# Altium footprint library crystal.PCBLIB: 66 footprints (part 1 of 5)
Each footprint in its own frame and in the unit in brackets; x right, y up, seen from the top. Pads: shape width x height; smd on the part's side, far side on the other; paste and mask are expansions set on the pad; w line width, h text height; cw(c..) or ccw(c..) is an arc to the next point about the centre after c.
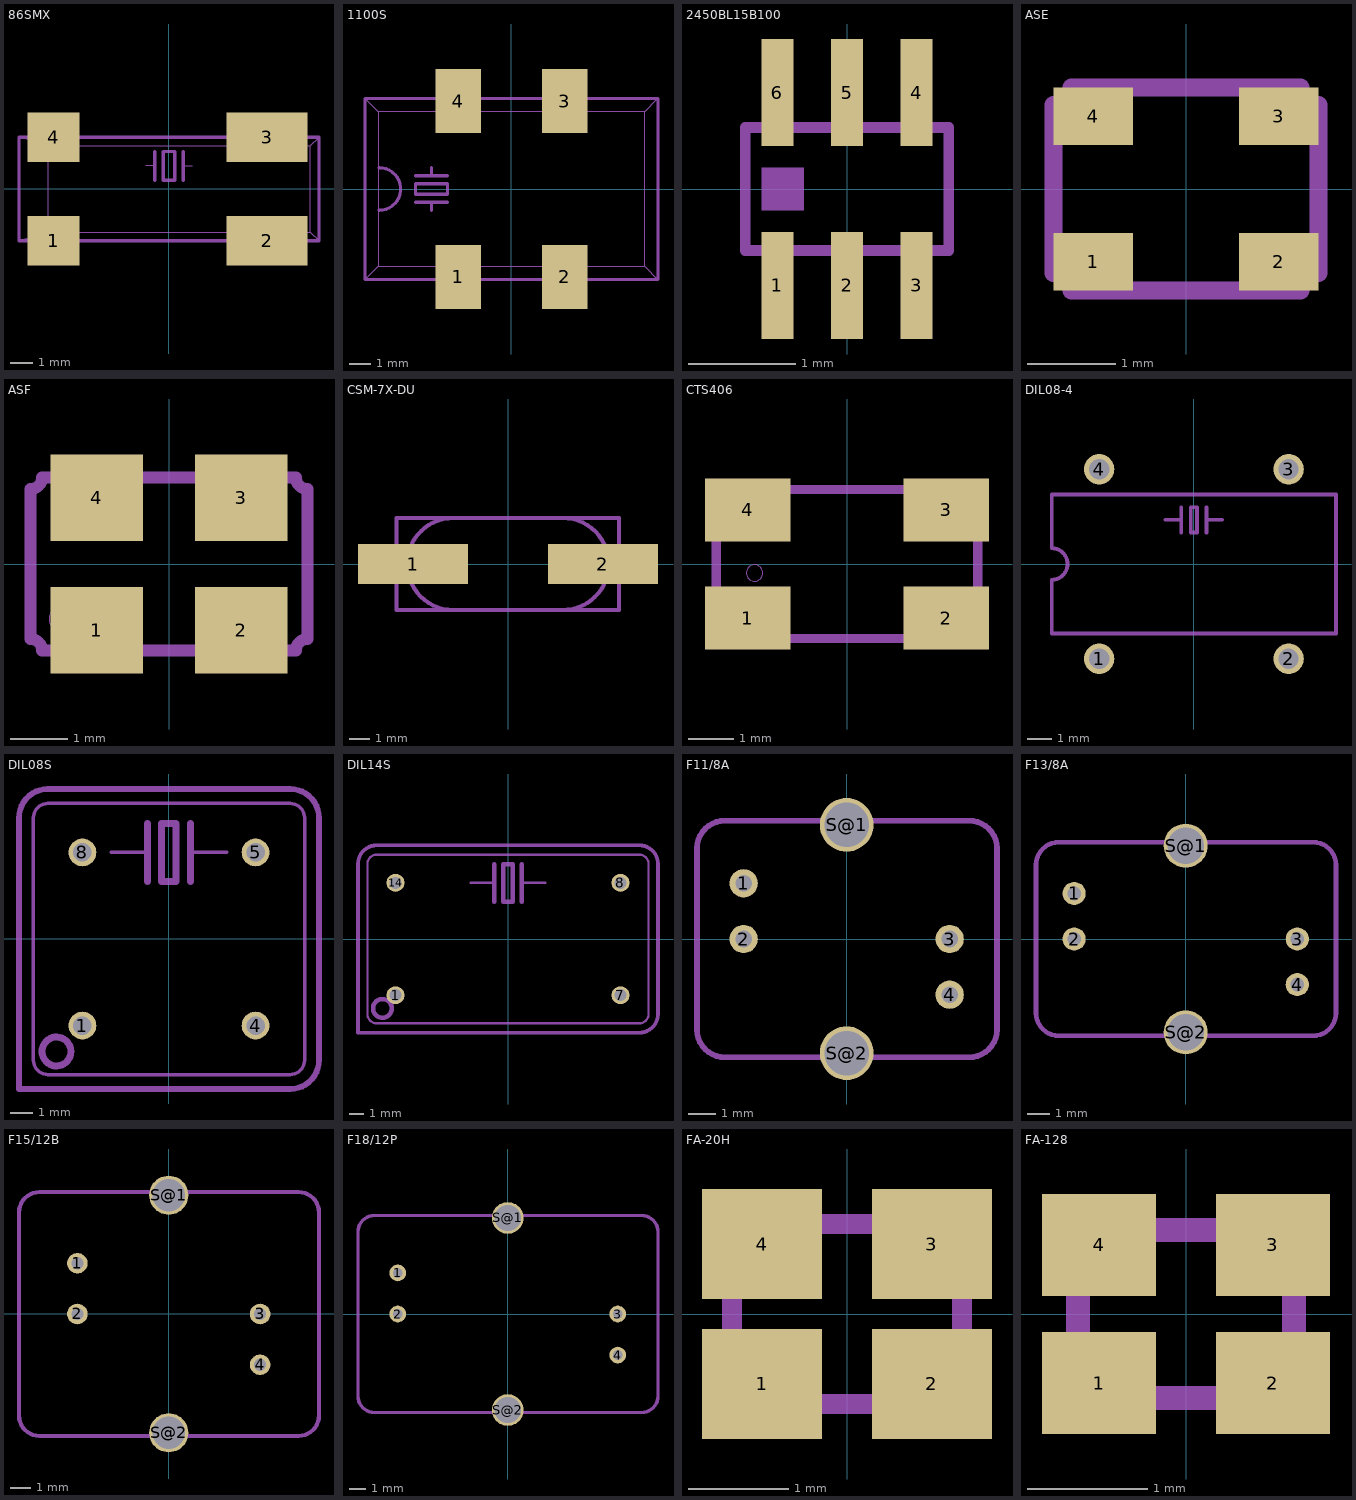
[diagram p0: the footprints below, top view; thin cyan lines are the x and y axes]

## 86SMX [mil]
pads (4):
  rect 90x86 smd: 1(-200,-90) 4(-200,90)
  rect 140x86 smd: 2(170,-90) 3(170,90)
Mechanical 2:
  lines w2: -260,-90 -250,-87 ; -260,90 -250,87 ; -210,-40 -210,40 ; -150,-75 95,-75 ; -150,75 95,75 ; -40,40 -25,40 ; 25,40 40,40 ; 260,-90 245,-75 245,75 260,90
  lines w6: -250,-90 -260,-90 -260,90 -250,90 ; -150,-90 95,-90 ; -150,90 95,90 ; -25,15 -25,40 -25,65 ; 25,15 25,40 25,65 ; 245,-90 260,-90 260,90 245,90 ; -10,15 -10,65 10,65 10,15 -10,15
Mechanical 18:
  lines w2: -250,-87 -210,-75 ; -250,87 -210,75 ; -210,-40 -210,-75 ; -210,40 -210,75 ; -150,-75 -210,-75 ; -150,75 -210,75 ; 95,-75 245,-75 ; 95,75 245,75
  lines w6: -250,-90 -235,-90 ; -250,90 -235,90 ; -150,-90 -165,-90 ; -150,90 -165,90 ; 95,-90 245,-90 ; 95,90 245,90 ; 110,-90 110,-100 230,-100 230,-90 ; 110,90 110,100 230,100 230,90 ; -235,-90 -165,-90 ; -235,-90 -235,-100 -165,-100 -165,-90 ; -235,90 -165,90 ; -235,90 -235,100 -165,100 -165,90

## 1100S [mil]
pads (4):
  rect 86x120 smd: 1(-100,-165) 2(100,-165) 3(100,165) 4(-100,165)
Mechanical 2:
  lines w2: -275,-170 -250,-145 ; -275,170 -250,145 ; -155,-145 -250,-145 ; -155,145 -250,145 ; -45,-145 45,-145 ; -45,145 45,145 ; 155,-145 250,-145 ; 155,145 250,145 ; 275,-170 250,-145 ; 275,170 250,145 ; -250,-145 -250,145 ; 250,-145 250,145
  lines w6: -248.03,-40 ccw(c-248.03,0) -248.03,40 ; -180,-25 -150,-25 ; -180,25 -150,25 ; -155,-170 -275,-170 -275,170 -155,170 ; -150,-40 -150,-25 ; -150,40 -150,25 ; -120,-25 -150,-25 ; -120,25 -150,25 ; -45,-170 45,-170 ; -45,170 45,170 ; 155,-170 275,-170 275,170 155,170 ; -180,-10 -120,-10 -120,10 -180,10 -180,-10
Mechanical 18:
  lines w2: -155,-145 -45,-145 ; -155,145 -45,145 ; 45,-145 155,-145 ; 45,145 155,145
  lines w6: -155,-170 -45,-170 ; -155,170 -45,170 ; -130,-170 -130,-195 -70,-195 -70,-170 ; -130,170 -130,195 -70,195 -70,170 ; 45,-170 70,-170 ; 45,170 70,170 ; 155,-170 130,-170 ; 155,170 130,170 ; 70,-170 130,-170 ; 70,-170 70,-195 130,-195 130,-170 ; 70,170 130,170 ; 70,170 70,195 130,195 130,170

## 2450BL15B100 [mm]
pads (6):
  rect 0.3x1 smd: 1(-0.65,-0.9) 2(0,-0.9) 3(0.65,-0.9) 4(0.65,0.9) 5(0,0.9) 6(-0.65,0.9)
Mechanical 2:
  rectangle: -0.8,-0.2 -0.4,0.2
Mechanical 18:
  lines w0.102: -0.95,-0.575 0.95,-0.575 0.95,0.575 -0.95,0.575 -0.95,-0.575

## ASE [mm]
pads (4):
  rect 0.9x0.65 smd: 1(-1.05,-0.825) 2(1.05,-0.825) 3(1.05,0.825) 4(-1.05,0.825)
Mechanical 18:
  circle w0: c-1,-0.7 r0.18
  lines w0.203: -1.5,-0.95 -1.5,0.95 ccw(c-1.5,1.15) -1.3,1.15 1.3,1.15 ccw(c1.5,1.15) 1.5,0.95 1.5,-0.95 ccw(c1.5,-1.15) 1.3,-1.15 -1.3,-1.15 ccw(c-1.5,-1.15) -1.5,-0.95

## ASF [mil]
pads (4):
  rect 62.99x59.06 smd: 1(-49.21,-45.28) 2(49.21,-45.28) 3(49.21,45.28) 4(-49.21,45.28)
Mechanical 2:
  lines w8: -86.61,-59.06 ccw(c-94.49,-59.06) -94.49,-51.18 -94.49,51.18 ccw(c-94.49,59.06) -86.61,59.06 ; 86.61,-59.06 cw(c94.49,-59.06) 94.49,-51.18 94.49,51.18 cw(c94.49,59.06) 86.61,59.06
Mechanical 18:
  circle w0: c-74.8,-37.4 r7.09
  lines w8: -86.61,-59.06 86.61,-59.06 ; -86.61,59.06 86.61,59.06

## CSM-7X-DU [mm]
pads (2):
  rect 5.5x2 smd: 1(-4.75,0) 2(4.75,0)
Mechanical 18:
  lines w0.203: 2.725,-2.3 ccw(c2.737,0) 2.75,2.3 ; -2.75,-2.3 5.55,-2.3 5.55,2.3 2.75,2.3 ; -2.75,-2.3 -5.575,-2.3 -5.575,2.3 -2.725,2.3 ; -2.75,-2.3 cw(c-2.737,0) -2.725,2.3 ; -2.725,2.3 2.75,2.3

## CTS406 [mil]
pads (4):
  rect 74.8x55.12 smd: 1(-86.61,-47.24) 2(86.61,-47.24) 3(86.61,47.24) 4(-86.61,47.24)
Mechanical 2:
  circle w0: c-80.71,-7.87 r7.17
  lines w8: -114.17,-11.81 -114.17,11.81 ; -41.34,-64.96 41.34,-64.96 ; -41.34,64.96 41.34,64.96 ; 114.17,-11.81 114.17,11.81
Mechanical 18:
  lines w8: -114.17,-11.81 -114.17,-48.23 cw(c-114.24,-65.03) -97.44,-64.96 -41.34,-64.96 ; -114.17,11.81 -114.17,48.23 ccw(c-114.24,65.03) -97.44,64.96 -41.34,64.96 ; 41.34,-64.96 97.44,-64.96 cw(c114.24,-65.03) 114.17,-48.23 114.17,-11.81 ; 41.34,64.96 97.44,64.96 ccw(c114.24,65.03) 114.17,48.23 114.17,11.81

## DIL08-4 [mil]
pads (4):
  round 48 hole 32: 1(-150,-150) 2(150,-150) 3(150,150) 4(-150,150)
Mechanical 2:
  lines w6: -45,70 -20,70 ; -20,50 -20,70 ; -20,90 -20,70 ; 20,50 20,70 ; 20,90 20,70 ; 45,70 20,70 ; -225,-110 -225,-25 ccw(c-225,0) -225,25 -225,110 225,110 225,-110 -225,-110 ; -5,50 -5,90 5,90 5,50 -5,50

## DIL08S [mil]
pads (4):
  round 48 hole 32: 1(-150,-150) 4(150,-150) 5(150,150) 8(-150,150)
Mechanical 2:
  lines w6: -100,150 -37,150 ; 37,150 100,150 ; -235,-210 -235,210 cw(c-210,210) -210,235 210,235 cw(c210,210) 235,210 235,-210 cw(c210,-210) 210,-235 -210,-235 cw(c-210,-210) -235,-210
  lines w10: -260,-260 210,-260 ccw(c210,-210) 260,-210 260,210 ccw(c210,210) 210,260 -210,260 ccw(c-210,210) -260,210 -260,-260
  lines w12: -37,100 -37,150 -37,200 ; 37,100 37,150 37,200 ; -13,100 -13,200 12,200 12,100 -13,100
Mechanical 18:
  circle w12: c-195,-195 r25

## DIL14S [mil]
pads (4):
  round 48 hole 32: 1(-300,-150) 7(300,-150) 8(300,150) 14(-300,150)
Mechanical 2:
  lines w6: -100,150 -37,150 ; 37,150 100,150 ; -375,-200 -375,200 cw(c-350,200) -350,225 350,225 cw(c350,200) 375,200 375,-200 cw(c350,-200) 350,-225 -350,-225 cw(c-350,-200) -375,-200
  lines w10: -400,-250 350,-250 ccw(c350,-200) 400,-200 400,200 ccw(c350,200) 350,250 -350,250 ccw(c-350,200) -400,200 -400,-250
  lines w12: -37,100 -37,150 -37,200 ; 37,100 37,150 37,200 ; -13,100 -13,200 12,200 12,100 -13,100
Mechanical 18:
  circle w12: c-335,-185 r25

## F11/8A [mil]
pads (6):
  round 40 hole 23.62: 1(-145.67,78.74) 2(-145.67,0) 3(145.67,0) 4(145.67,-78.74)
  round 76 hole 62.99: S@1(0,161.42) S@2(0,-161.42)
Mechanical 2:
  lines w8: -211.61,-127.95 -211.61,127.95 cw(c-172.24,127.95) -172.24,167.32 173.23,167.32 cw(c173.23,127.95) 212.6,127.95 212.6,-127.95 cw(c173.23,-127.95) 173.23,-167.32 -172.24,-167.32 cw(c-172.24,-127.95) -211.61,-127.95

## F13/8A [mil]
pads (6):
  round 40 hole 23.62: 1(-192.91,78.74) 2(-192.91,0) 3(192.91,0) 4(192.91,-78.74)
  round 76 hole 62.99: S@1(0,161.42) S@2(0,-161.42)
Mechanical 2:
  lines w8: -258.86,-127.95 -258.86,127.95 cw(c-219.49,127.95) -219.49,167.32 220.47,167.32 cw(c220.47,127.95) 259.84,127.95 259.84,-127.95 cw(c220.47,-127.95) 220.47,-167.32 -219.49,-167.32 cw(c-219.49,-127.95) -258.86,-127.95

## F15/12B [mil]
pads (6):
  round 40 hole 23.62: 1(-177.17,98.43) 2(-177.17,0) 3(177.17,0) 4(177.17,-98.43)
  round 76 hole 62.99: S@1(0,230.32) S@2(0,-230.32)
Mechanical 2:
  lines w8: -290.35,-196.85 -290.35,196.85 cw(c-250.98,196.85) -250.98,236.22 251.97,236.22 cw(c251.97,196.85) 291.34,196.85 291.34,-196.85 cw(c251.97,-196.85) 251.97,-236.22 -250.98,-236.22 cw(c-250.98,-196.85) -290.35,-196.85

## F18/12P [mil]
pads (6):
  round 40 hole 23.62: 1(-263.78,98.43) 2(-263.78,0) 3(263.78,0) 4(263.78,-98.43)
  round 76 hole 62.99: S@1(0,230.32) S@2(0,-230.32)
Mechanical 2:
  lines w8: -359.25,-196.85 -359.25,196.85 cw(c-319.88,196.85) -319.88,236.22 320.87,236.22 cw(c320.87,196.85) 360.24,196.85 360.24,-196.85 cw(c320.87,-196.85) 320.87,-236.22 -319.88,-236.22 cw(c-319.88,-196.85) -359.25,-196.85

## FA-20H [mil]
pads (4):
  rect 47.24x43.31 smd paste-23.62 mask-23.62: 1(-33.46,-27.56) 2(33.46,-27.56) 3(33.46,27.56) 4(-33.46,27.56)
Top Paste:
  rectangle: -55.12,7.87 -11.81,47.24
  rectangle: 11.81,7.87 55.12,47.24
  rectangle: -55.12,-47.24 -11.81,-7.87
  region: 0,0 10,0 10,10 0,10
Top Solder:
  rectangle: -59.06,3.94 -7.87,51.18
  rectangle: 7.87,3.94 59.06,51.18
  rectangle: -59.06,-51.18 -7.87,-3.94
  region: 0,0 10,0 10,10 0,10
Mechanical 18:
  lines w8: -45.28,-35.43 45.28,-35.43 45.28,35.43 -45.28,35.43 -45.28,-35.43

## FA-128 [mil]
pads (4):
  rect 37.4x33.46 smd paste-18.7 mask-18.7: 1(-28.54,-22.64) 2(28.54,-22.64) 3(28.54,22.64) 4(-28.54,22.64)
Top Paste:
  rectangle: -45.28,7.87 -11.81,37.4
  rectangle: 11.81,7.87 45.28,37.4
  rectangle: -45.28,-37.4 -11.81,-7.87
  region: 0,0 10,0 10,10 0,10
Top Solder:
  rectangle: -49.21,3.94 -7.87,41.34
  rectangle: 7.87,3.94 49.21,41.34
  rectangle: -49.21,-41.34 -7.87,-3.94
  region: 0,0 10,0 10,10 0,10
Mechanical 18:
  lines w8: -35.43,-27.56 35.43,-27.56 35.43,27.56 -35.43,27.56 -35.43,-27.56